# Altium schematic symbol library B3F-1000.SchLib: 1 symbol
Pins are listed as number, name and electrical type; pins without a type are passive.

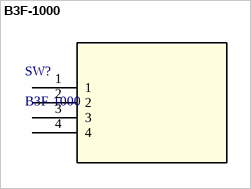
[diagram p0: symbol B3F-1000]

## B3F-1000
designator SW?
Description; Manufacturer_Name: Omron; Copyright: Copyright (C) 2026 Ultra Librarian. All rights reserved.; Manufacturer_Part_Number: B3F-1000; RefDes: RefDes; Type: Type
footprint SW_B3F-1000_OMR
pins: 1, 2, 3, 4